# EAGLE library part ADUM6200 (library di_ic)
Analog Devices - ADuM6200/ADuM6201/ADuM6202 - Dual-Channel, 5 kV Isolators with Integrated DC-to-DC Converter. http://www.analog.com/static/imported-files/data_sheets/ADuM6200_6201_6202.PDF
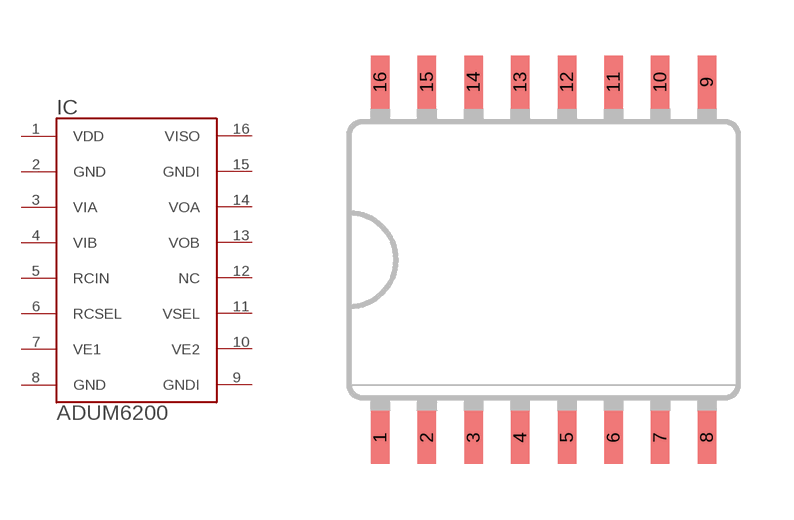
[diagram p54: symbol with the pads of SO16W; footprint SO16W]

Designator prefix IC

## ADUM6200 (PARTNUM: ADUM6200CRWZ-ND)  [SO16W]
1  VDD  pwr
2  GND  pwr
3  VIA
4  VIB
5  RCIN
6  RCSEL
7  VE1  pas
8  GND  pwr
9  GNDI  pwr
10  VE2  pas
11  VSEL
12  NC
13  VOB
14  VOA
15  GNDI  pwr
16  VISO  pwr

## Footprint SO16W (pad centres in mm)
Small Outline Package .300 SIOC Source: http://www.maxim-ic.com/cgi-bin/packages?pkg=16%2FSOIC%2E300&Type=Max
smd 0.5 x 1.43: 1 -4.41,-4.8; 2 -3.15,-4.8; 3 -1.89,-4.8; 4 -0.63,-4.8; 5 0.63,-4.8; 6 1.89,-4.8; 7 3.15,-4.8; 8 4.41,-4.8; 9 4.41,4.8; 10 3.15,4.8; 11 1.89,4.8; 12 0.63,4.8; 13 -0.63,4.8; 14 -1.89,4.8; 15 -3.15,4.8; 16 -4.41,4.8